# Altium integrated library WiLamp_St_NEMA.IntLib: 83 symbols
Pins are listed as number, name and electrical type; pins without a type are passive.

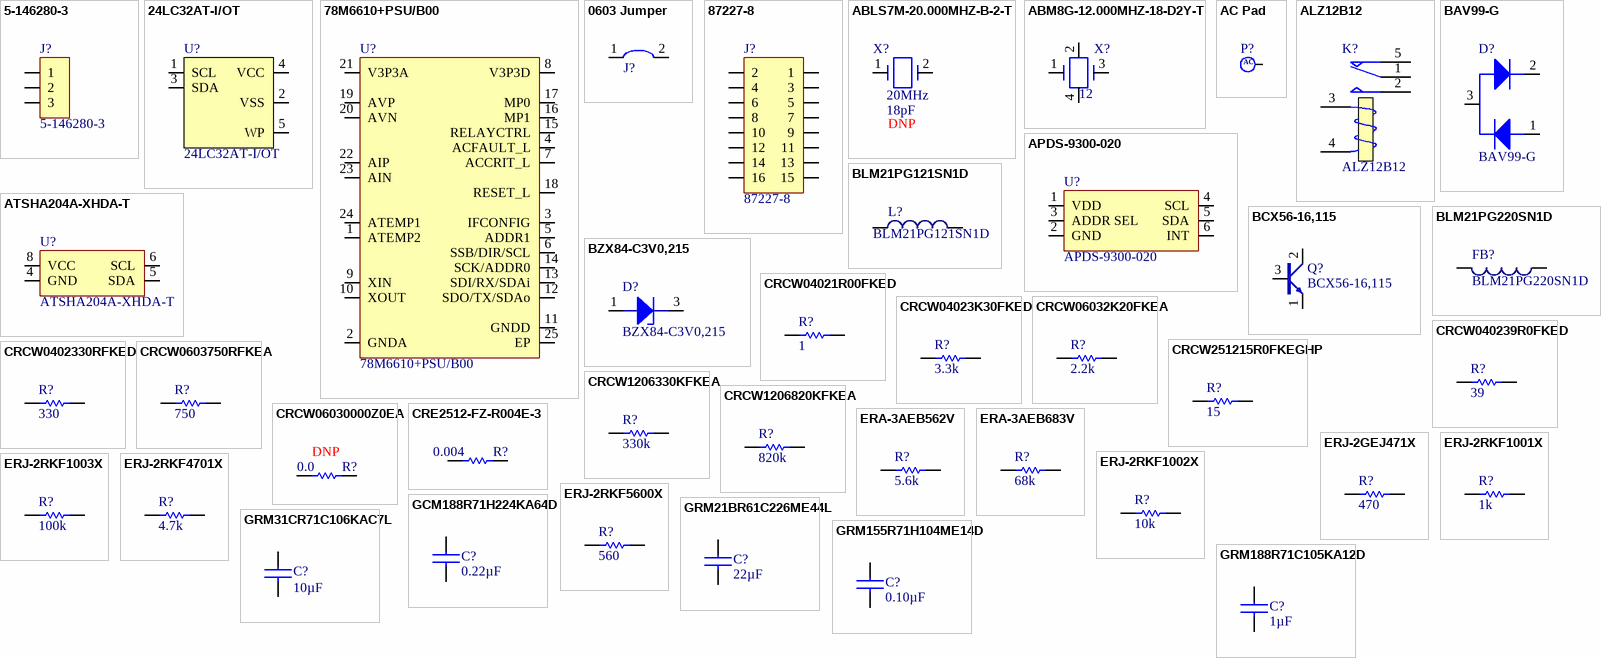
[diagram p0: symbols 5-146280-3 to GRM188R71C105KA12D]

## 5-146280-3
designator J?
CONN HEADR BRKWAY .100 3POS STR; MFT: TE Connectivity AMP Connectors; FUNCTION: Top; TYPE: TH; RATING: *; DNP: *; VALUE: 5-146280-3; MPN: 5-146280-3
footprint 5-146280-3
pins: 1, 2, 3

## 24LC32AT-I/OT
designator U?
IC EEPROM 32KBIT 400KHZ SOT23-5; MFT: Microchip Technology; VALUE: 24LC32AT-I/OT; TYPE: SMD; RATING: *; FUNCTION: *; DNP: *; MPN: 24LC32AT-I/OT
footprint SOT-23-5
pins: 1 SCL, 2 VSS, 3 SDA, 4 VCC, 5 WP

## 78M6610+PSU/B00
designator U?
IC ENERGY MEASURMENT 1PH 24TQFN; Manufacturer: Maxim Integrated; Input Impedance: 30 kOhm ~ 90 kOhm; Voltage - I/O High: 0.6V, 2V; Voltage - I/O Low: 0.5V, 0.8V; Current - Supply: 8.1mA; Voltage - Supply: 3 V ~ 3.6 V; Meter Type: Single Phase; FUNCTION: Energy Meter; Supplier 1: Digi-Key; RoHS: RoHS non-compliant; Category: Integrated Circuits (ICs); Stock 1: 62; Pricing 1: 1=2.56, 10=2.432, 25=2.3, 50=2.185, 100=2.15, 250=2.04248, 1000=1.93392 (USD); Packaging: Tube; Measurement Error: -; Operating Temperature: -40°C ~ 85°C; Mounting Type: Surface Mount; Package / Case: 24-WFQFN Exposed Pad; Supplier Device Package: 24-TQFN (4x4); ComponentLink1URL: http://datasheets.maximintegrated.com/en/ds/78M6610+PSU.pdf; ComponentLink1Description: http://datasheets.maximintegrated.com/en/ds/78M6610+PSU.pdf; Supplier Part Number 1: 78M6610+PSU/B00-ND; Manufacturer Part Number: 78M6610+PSU/B00
footprint QFN-24 (4X4mm)
pins: 1 ATEMP2, 2 GNDA, 3 IFCONFIG, 4 ACFAULT_L, 5 ADDR1, 6 SSB/DIR/SCL, 7 ACCRIT_L, 8 V3P3D, 9 XIN, 10 XOUT, 11 GNDD, 12 SDO/TX/SDAo, 13 SDI/RX/SDAi, 14 SCK/ADDR0, 15 RELAYCTRL, 16 MP1, 17 MP0, 18 RESET_L, 19 AVP, 20 AVN, 21 V3P3A, 22 AIP, 23 AIN, 24 ATEMP1, 25 EP

## 0603 Jumper
designator J?  (value not drawn)
FUNCTION: JN5168
footprint 0603 Jumper
pins: 1, 2

## 87227-8
designator J?
CONN HEADER VERT .100 16POS 15AU; MFT: TE Connectivity AMP Connectors; FUNCTION: Top; VALUE: 87227-8; TYPE: SMD; RATING: *; DNP: *; MPN: 87227-8
footprint 87227-8
pins: 1, 2, 3, 4, 5, 6, 7, 8, 9, 10, 11, 12, 13, 14, 15, 16

## ABLS7M-20.000MHZ-B-2-T
designator X?  Frequency: 20MHz  Load Capacitance: 18pF  (hidden comment: ABLS7M-20.000MHZ-B-2-T)
CRYSTAL 20.000 MHZ 18PF SMT; Manufacturer: Abracon LLC; Frequency Stability: ±50ppm; Frequency Tolerance: ±20ppm; ESR (Equivalent Series Resistance): 40 Ohm; Operating Mode: Fundamental; FUNCTION: Energy Meter; Supplier 1: Digi-Key; Manufacturer Part Number: ABLS7M-20.000MHZ-B-2-T; RoHS: RoHS Compliant; Category: Crystals and Oscillators; Stock 1: 0; Pricing 1: 3000=0.1725 (USD); Packaging: Tape & Reel (TR); Type: MHz Crystal; Operating Temperature: -20°C ~ 70°C; Ratings: -; Mounting Type: Surface Mount; Package / Case: 2-SMD; Size / Dimension: 0.450" L x 0.190" W (11.40mm x 4.70mm); Height: 0.165" (4.20mm); ComponentLink1URL: http://abracon.com/Resonators/ABLS7M.pdf; ComponentLink1Description: http://abracon.com/Resonators/ABLS7M.pdf; Supplier Part Number 1: ABLS7M-20.000MHZ-B-2-T-ND; DNP: DNP
footprint ABLS7M (crystal)
pins: 1, 2

## ABM8G-12.000MHZ-18-D2Y-T
designator X?  Frequency Nom: 12  (hidden comment: ABM8G-12.000MHZ-18-D2Y-T)
ABRACON - ABM8G-12.000MHZ-18-D2Y-T - CRYSTAL, 12MHz,18pF, 3.2mm x 2.5mm SMD, FULL REEL; Frequency Stability + / -: 30; Frequency Tolerance + / -: 20; Load Capacitance: 18; FUNCTION: DALI DMX controller; Supplier 1: Farnell; Manufacturer: ABRACON; Manufacturer Part Number: ABM8G-12.000MHZ-18-D2Y-T; RoHS: Y-EX; Stock 1: 3995; Pricing 1: 1000=0.86, 3000=0.832, 5000=0.802, 10000=0.774 (GBP); Product Range: ABRACON - ABM8; Crystal Case: 3.2mm x 2.5; ComponentLink1URL: http://www.abracon.com/Resonators/ABM8G.pdf; ComponentLink1Description: http://www.abracon.com/Resonators/ABM8G.pdf; Supplier Part Number 1: 2368793
footprint 4SMD-crystal
pins: 1, 2, 3, 4

## AC Pad
designator P?  (value not drawn)
FUNCTION: Top
footprint AC pad (Hole2.4mm_Pad4.2mm)
pins: 1
text: AC

## ALZ12B12
designator K?
General Purpose Relays 16A 12VDC SPDT CLASS B; MFT: Panasonic Industrial Devices; FUNCTION: Relay; VALUE: ALZ12B12; TYPE: Through Hole; MPN: ALZ12B12
footprint ALZ12B12
pins: 1 COM, 2 NO, 3 T1, 4 T2, 5 NC

## APDS-9300-020
designator U?
IC SENSOR AMBIENT LIGHT 6CHIPLED; MFT: Broadcom Limited; LOAD: *; TYPE: SMD; RATING: *; VALUE: APDS-9300-020; MPN: APDS-9300-020
footprint APDS-9300-020
pins: 1 VDD, 2 GND, 3 ADDR SEL, 4 SCL, 5 SDA, 6 INT

## ATSHA204A-XHDA-T
designator U?
IC CRYPTO 4.5KB I2C; MFT: Microchip Technology; LOAD: *; TYPE: SMD; RATING: *; VALUE: ATSHA204A-XHDA-T; MPN: ATSHA204A-XHDA-T
footprint TSSOP-8 (wide Body)
pins: 4 GND, 5 SDA, 6 SCL, 8 VCC

## BAV99-G
designator D?
DIODE ARRAY GP 70V 215MA SOT23; Manufacturer: Comchip Technology; Diode Configuration: 1 Pair Series Connection; Diode Type: Standard; Current - Average Rectified (Io) (per Diode): 215mA (DC); Voltage - Forward (Vf) (Max) @ If: 1.25V @ 150mA; Speed: Fast Recovery =< 500ns, > 200mA (Io); Reverse Recovery Time (trr): 6ns; Current - Reverse Leakage @ Vr: 2.5µA @ 70V; FUNCTION: DALI PHY; Supplier 1: Digi-Key; RoHS: RoHS Compliant; Category: Discrete Semiconductor Products; Stock 1: 9000; Pricing 1: 3000=0.046, 6000=0.04, 15000=0.034, 30000=0.032, 75000=0.03, 150000=0.026 (USD); Packaging: Tape & Reel (TR); Voltage - DC Reverse (Vr) (Max): 70V; Mounting Type: Surface Mount; Package / Case: TO-236-3, SC-59, SOT-23-3; Supplier Device Package: SOT-23-3; ComponentLink1URL: http://media.digikey.com/pdf/Data%20Sheets/Comchip%20PDFs/BAV99_BAW56.pdf; ComponentLink1Description: http://media.digikey.com/pdf/Data%20Sheets/Comchip%20PDFs/BAV99_BAW56.pdf; Supplier Part Number 1: 641-1322-2-ND; Manufacturer Part Number: BAV99-G
footprint SOT-23
pins: 1, 2, 3

## BCX56-16,115
designator Q?
TRANS NPN MED 1A 80V SOT89; Manufacturer: NXP Semiconductors; Vce Saturation (Max) @ Ib, Ic: 500mV @ 50mA, 500mA; DC Current Gain (hFE) (Min) @ Ic, Vce: 100 @ 150mA, 2V; Power - Max: 1.25W; Frequency - Transition: 180MHz; FUNCTION: DALI PHY; Supplier 1: Digi-Key; RoHS: RoHS Compliant; Category: Discrete Semiconductor Products; Stock 1: 23673; Pricing 1: 1=0.58, 10=0.406, 25=0.3332, 100=0.2664, 250=0.19404, 500=0.15758 (USD); Packaging: Cut Tape (CT); Transistor Type: NPN; Current - Collector (Ic) (Max): 1A; Voltage - Collector Emitter Breakdown (Max): 80V; Current - Collector Cutoff (Max): -; Mounting Type: Surface Mount; Package / Case: TO-243AA; Supplier Device Package: SOT-89-3; ComponentLink1URL: http://media.digikey.com/pdf/Data%20Sheets/NXP%20PDFs/BC639,BCP56,BCX56.pdf; ComponentLink1Description: http://media.digikey.com/pdf/Data%20Sheets/NXP%20PDFs/BC639,BCP56,BCX56.pdf; Supplier Part Number 1: 568-1642-1-ND; Manufacturer Part Number: BCX56-16,115
footprint SOT 89-3
pins: 1 emitter, 2 collector, 3 base

## BLM21PG121SN1D
designator L?
FERRITE CHIP 120 OHM 0805; MFT: Murata Electronics North America; RATING: 3A; TYPE: Surface Mount; VALUE: 120 Ohm; FUNCTION: JN5168; MPN: BLM21PG121SN1D
footprint 0805 INDUCTOR
pins: 1, 2

## BLM21PG220SN1D
designator FB?
FERRITE CHIP 22 OHM 0805; Manufacturer: Murata Electronics North America; Impedance @ Frequency: 22 Ohm @ 100MHz; Current Rating: 6A; DC Resistance (DCR): 9 mOhm Max; Filter Type: Differential Mode - Single; FUNCTION: DALI PHY; Supplier 1: Digi-Key; RoHS: RoHS Compliant; Category: Filters; Stock 1: 106220; Pricing 1: 1=0.13, 10=0.103, 50=0.0682, 100=0.0589, 250=0.04652, 500=0.0393, 1000=0.03309 (USD); Packaging: Cut Tape (CT); Package / Case: 0805 (2012 Metric); Mounting Type: Surface Mount; Height (Max): 0.041" (1.05mm); Size / Dimension: 0.079" L x 0.049" W (2.00mm x 1.25mm); ComponentLink1URL: http://search.murata.co.jp/Ceramy/image/img/PDF/ENG/L0110S0100BLM21P.pdf; ComponentLink1Description: http://search.murata.co.jp/Ceramy/image/img/PDF/ENG/L0110S0100BLM21P.pdf; Supplier Part Number 1: 490-5987-1-ND; Manufacturer Part Number: BLM21PG220SN1D
footprint 0805 (FERRITE)
pins: 1, 2

## BZX84-C3V0,215
designator D?
DIODE ZENER 3V 250MW TO236AB; Manufacturer: NXP Semiconductors; Tolerance: ±5%; Impedance (Max) (Zzt): 95 Ohm; Current - Reverse Leakage @ Vr: 10µA @ 1V; Voltage - Forward (Vf) (Max) @ If: 900mV @ 10mA; FUNCTION: DALI PHY; Supplier 1: Digi-Key; RoHS: RoHS Compliant; Category: Discrete Semiconductor Products; Stock 1: 18717; Pricing 1: 1=0.16, 10=0.149, 25=0.1352, 100=0.0973, 250=0.05732, 500=0.04756, 1000=0.03245 (USD); Packaging: Cut Tape (CT); Voltage - Zener (Nom) (Vz): 3V; Power - Max: 250mW; Operating Temperature: -65°C ~ 150°C; Mounting Type: Surface Mount; Package / Case: TO-236-3, SC-59, SOT-23-3; Supplier Device Package: SOT-23 (TO-236AB); ComponentLink1URL: http://www.nxp.com/documents/data_sheet/BZX84_SER.pdf; ComponentLink1Description: http://www.nxp.com/documents/data_sheet/BZX84_SER.pdf; Supplier Part Number 1: 568-6326-1-ND; Manufacturer Part Number: BZX84-C3V0,215
footprint SOT-23(TO-236AB)
pins: 1 A, 3 K

## CRCW04021R00FKED
designator R?  value 1  (hidden comment: CRCW04021R00FKED)
RES SMD 1 OHM 1% 1/16W 0402; MFT: Vishay Dale; FUNCTION: analog outputs; MPN: CRCW04021R00FKED; TYPE: SMD; RATING: 1/16W; DNP: *
footprint R0402
pins: 1, 2

## CRCW04023K30FKED
designator R?  value 3.3k  (hidden comment: CRCW04023K30FKED)
RES SMD 3.3K OHM 1% 1/16W 0402; MFT: Vishay Dale; FUNCTION: Energy Meter; MPN: CRCW04023K30FKED; TYPE: SMD; RATING: 1/16W; DNP: *
footprint R0402
pins: 1, 2

## CRCW06032K20FKEA
designator R?  Resistance (Ohms): 2.2k  (hidden comment: CRCW06032K20FKEA)
RES SMD 2.2K OHM 1% 1/10W 0603; Manufacturer: Vishay Dale; Power (Watts): 0.1W, 1/10W; Temperature Coefficient: ±100ppm/°C; FUNCTION: analog outputs; Supplier 1: Digi-Key; Manufacturer Part Number: CRCW06032K20FKEA; RoHS: RoHS Compliant; Category: Resistors; Stock 1: 257334; Pricing 1: 10=0.081, 50=0.0436, 200=0.0251, 1000=0.01711 (USD); Packaging: Digi-Reel®; Tolerance: ±1%; Composition: Thick Film; Features: Automotive AEC-Q200; Operating Temperature: -55°C ~ 155°C; Package / Case: 0603 (1608 Metric); Supplier Device Package: 0603 (1608 Metric); Size / Dimension: 0.061" L x 0.033" W (1.55mm x 0.85mm); Height: 0.020" (0.50mm); Number of Terminations: 2; ComponentLink1URL: http://www.vishay.com/docs/20035/dcrcwe3.pdf; ComponentLink1Description: http://www.vishay.com/docs/20035/dcrcwe3.pdf; Supplier Part Number 1: 541-2.20KHDKR-ND
footprint R0603
pins: 1, 2

## CRCW040239R0FKED
designator R?  value 39  (hidden comment: CRCW040239R0FKED)
RES SMD 39 OHM 1% 1/16W 0402; MFT: Vishay Dale; FUNCTION: DALI DMX controller; MPN: CRCW040239R0FKED; TYPE: SMD; RATING: 1/16W; DNP: *
footprint R0402
pins: 1, 2

## CRCW251215R0FKEGHP
designator R?  value 15  (hidden comment: CRCW251215R0FKEGHP)
RES SMD 15 OHM 1% 1.5W 2512; MFT: Vishay Dale; FUNCTION: DALI PHY; MPN: CRCW251215R0FKEGHP; TYPE: SMD; RATING: 1.5W; DNP: *
footprint R2512
pins: 1, 2

## CRCW0402330RFKED
designator R?  value 330  (hidden comment: CRCW0402330RFKED)
RES SMD 330 OHM 1% 1/16W 0402; MFT: Vishay Dale; FUNCTION: GPS; MPN: CRCW0402330RFKED; TYPE: SMD; RATING: 1/16W; DNP: *
footprint R0402
pins: 1, 2

## CRCW0603750RFKEA
designator R?  value 750  (hidden comment: CRCW0603750RFKEA)
RES SMD 750 OHM 1% 1/10W 0603; MFT: Vishay Dale; FUNCTION: Energy Meter; MPN: CRCW0603750RFKEA; TYPE: SMD; RATING: 1/10W; DNP: *
footprint R0603
pins: 1, 2

## CRCW1206330KFKEA
designator R?  value 330k  (hidden comment: CRCW1206330KFKEA)
RES SMD 330K OHM 1% 1/4W 1206; MFT: Vishay Dale; FUNCTION: Energy Meter; MPN: CRCW1206330KFKEA; TYPE: SMD; RATING: 1/4W; DNP: *
footprint R1206
pins: 1, 2

## CRCW1206820KFKEA
designator R?  value 820k  (hidden comment: CRCW1206820KFKEA)
RES SMD 820K OHM 1% 1/4W 1206; MFT: Vishay Dale; FUNCTION: Energy Meter; MPN: CRCW1206820KFKEA; TYPE: SMD; RATING: 1/4W; DNP: *
footprint R1206
pins: 1, 2

## CRCW06030000Z0EA
designator R?  value 0.0  (hidden comment: CRCW06030000Z0EA)
RES SMD 0.0OHM JUMPER 1/10W 0603; MFT: Vishay Dale; RATING: 0.1W, 1/10W; FUNCTION: Top; MPN: CRCW06030000Z0EA; DNP: DNP; TYPE: Surface Mount
footprint R0603
pins: 1, 2

## CRE2512-FZ-R004E-3
designator R?  Resistance (Ohms): 0.004  (hidden comment: CRE2512-FZ-R004E-3)
RES SMD 0.004 OHM 1% 3W 2512; Manufacturer: Bourns Inc.; Temperature Coefficient: ±75ppm/°C; FUNCTION: Energy Meter; Supplier 1: Digi-Key; Manufacturer Part Number: CRE2512-FZ-R004E-3; RoHS: RoHS Compliant; Category: Resistors; Stock 1: 0; Pricing 1: 1=0.62, 10=0.52, 25=0.4456, 50=0.401, 100=0.349, 250=0.31184, 500=0.25246, 1000=0.20419 (USD); Packaging: Cut Tape (CT); Tolerance: ±1%; Power (Watts): 3W; Composition: Metal Film; Features: Current Sense, Moisture Resistant; Operating Temperature: -55°C ~ 170°C; Package / Case: 2512 (6432 Metric); Supplier Device Package: 2512; Size / Dimension: 0.254" L x 0.132" W (6.45mm x 3.35mm); Height: 0.035" (0.90mm); Number of Terminations: 2; ComponentLink1URL: http://www.bourns.com/data/global/pdfs/CRE.pdf; ComponentLink1Description: http://www.bourns.com/data/global/pdfs/CRE.pdf; Supplier Part Number 1: CRE2512-FZ-R004E-3CT-ND
footprint R2512
pins: 1, 2

## ERA-3AEB562V
designator R?  value 5.6k  (hidden comment: ERA-3AEB562V)
RES SMD 5.6K OHM 0.1% 1/10W 0603; MFT: Panasonic Electronic Components; FUNCTION: analog inputs; MPN: ERA-3AEB562V; TYPE: SMD; RATING: 1/10W; DNP: *
footprint R0603
pins: 1, 2

## ERA-3AEB683V
designator R?  value 68k  (hidden comment: ERA-3AEB683V)
RES SMD 68K OHM 0.1% 1/10W 0603; MFT: Panasonic Electronic Components; FUNCTION: analog inputs; MPN: ERA-3AEB683V; TYPE: SMD; RATING: 1/10W; DNP: *
footprint R0603
pins: 1, 2

## ERJ-2GEJ471X
designator R?  value 470  (hidden comment: ERJ-2GEJ471X)
RES SMD 470 OHM 5% 1/10W 0402; MFT: Panasonic Electronic Components; MPN: ERJ-2GEJ471X; TYPE: SMD; RATING: 5% 1/10W; LOAD: *
footprint R0402
pins: 1, 2

## ERJ-2RKF1001X
designator R?  value 1k  (hidden comment: ERJ-2RKF1001X)
RES SMD 1K OHM 1% 1/10W 0402; MFT: Panasonic Electronic Components; RATING: 0.1W, 1/10W; MPN: ERJ-2RKF1001X; TYPE: Surface Mount
footprint R0402
pins: 1, 2

## ERJ-2RKF1002X
designator R?  value 10k  (hidden comment: ERJ-2RKF1002X)
RES SMD 10K OHM 1% 1/10W 0402; MFT: Panasonic Electronic Components; RATING: 0.1W, 1/10W; MPN: ERJ-2RKF1002X; TYPE: Surface Mount
footprint R0402
pins: 1, 2

## ERJ-2RKF1003X
designator R?  value 100k  (hidden comment: ERJ-2RKF1003X)
RES SMD 100K OHM 1% 1/10W 0402; MFT: Panasonic Electronic Components; RATING: 0.1W, 1/10W; MPN: ERJ-2RKF1003X; TYPE: Surface Mount
footprint R0402
pins: 1, 2

## ERJ-2RKF4701X
designator R?  value 4.7k  (hidden comment: ERJ-2RKF4701X)
RES SMD 4.7K OHM 1% 1/10W 0402; MFT: Panasonic Electronic Components; RATING: 0.1W, 1/10W; MPN: ERJ-2RKF4701X; TYPE: Surface Mount
footprint R0402
pins: 1, 2

## ERJ-2RKF5600X
designator R?  Resistance (Ohms): 560  (hidden comment: ERJ-2RKF5600X)
RES SMD 560 OHM 1% 1/10W 0402; Manufacturer: Panasonic Electronic Components; Power (Watts): 0.1W, 1/10W; Temperature Coefficient: ±100ppm/°C; FUNCTION: DALI PHY; Supplier 1: Digi-Key; Manufacturer Part Number: ERJ-2RKF5600X; RoHS: RoHS Compliant; Category: Resistors; Stock 1: 147299; Pricing 1: 1=0.1, 50=0.015, 100=0.011, 250=0.0084, 500=0.00674, 1000=0.00496, 5000=0.00355 (USD); Packaging: Cut Tape (CT); Tolerance: ±1%; Composition: Thick Film; Features: Automotive AEC-Q200; Operating Temperature: -55°C ~ 155°C; Package / Case: 0402 (1005 Metric); Supplier Device Package: 0402; Size / Dimension: 0.039" L x 0.020" W (1.00mm x 0.50mm); Height: 0.016" (0.40mm); Number of Terminations: 2; ComponentLink1URL: http://industrial.panasonic.com/www-cgi/jvcr13pz.cgi?E+PZ+3+AOA0002+ERJ2RKF5600X+7+WW; ComponentLink1Description: http://industrial.panasonic.com/www-cgi/jvcr13pz.cgi?E+PZ+3+AOA0002+ERJ2RKF5600X+7+WW; Supplier Part Number 1: P560LCT-ND
footprint R0402
pins: 1, 2

## GCM188R71H224KA64D
designator C?  value 0.22µF  (hidden comment: GCM188R71H224KA64D)
CAP CER 0.22UF 50V X7R 0603; MFT: Murata Electronics North America; TYPE: Surface Mount, MLCC; FUNCTION: analog inputs; MPN: GCM188R71H224KA64D; RATING: 50V
footprint C0603
pins: 1, 2

## GRM21BR61C226ME44L
designator C?  value 22µF  (hidden comment: GRM21BR61C226ME44L)
CAP CER 22UF 16V X5R 0805; MFT: Murata Electronics North America; TYPE: SMD; FUNCTION: Power Supply; MPN: GRM21BR61C226ME44L; RATING: 16V; DNP: *
footprint C0805
pins: 1, 2

## GRM31CR71C106KAC7L
designator C?  value 10µF  (hidden comment: GRM31CR71C106KAC7L)
CAP CER 10UF 16V X7R 1206; MFT: Murata Electronics North America; TYPE: SMD; FUNCTION: GPS; MPN: GRM31CR71C106KAC7L; RATING: 16V; DNP: *
footprint C1206
pins: 1, 2

## GRM155R71H104ME14D
designator C?  value 0.10µF  (hidden comment: GRM155R71H104ME14D)
CAP CER 0.1UF 50V X7R 0402; MFT: Murata Electronics North America; TYPE: SMD; FUNCTION: Top; MPN: GRM155R71H104ME14D; RATING: 50V; DNP: *
footprint C0402
pins: 1, 2

## GRM188R71C105KA12D
designator C?  value 1µF  (hidden comment: GRM188R71C105KA12D)
CAP CER 1UF 16V X7R 0603; MFT: Murata Electronics North America; RATING: ±10%, 16V; TYPE: Surface Mount, MLCC; FUNCTION: Energy Meter; MPN: GRM188R71C105KA12D
footprint C0603
pins: 1, 2

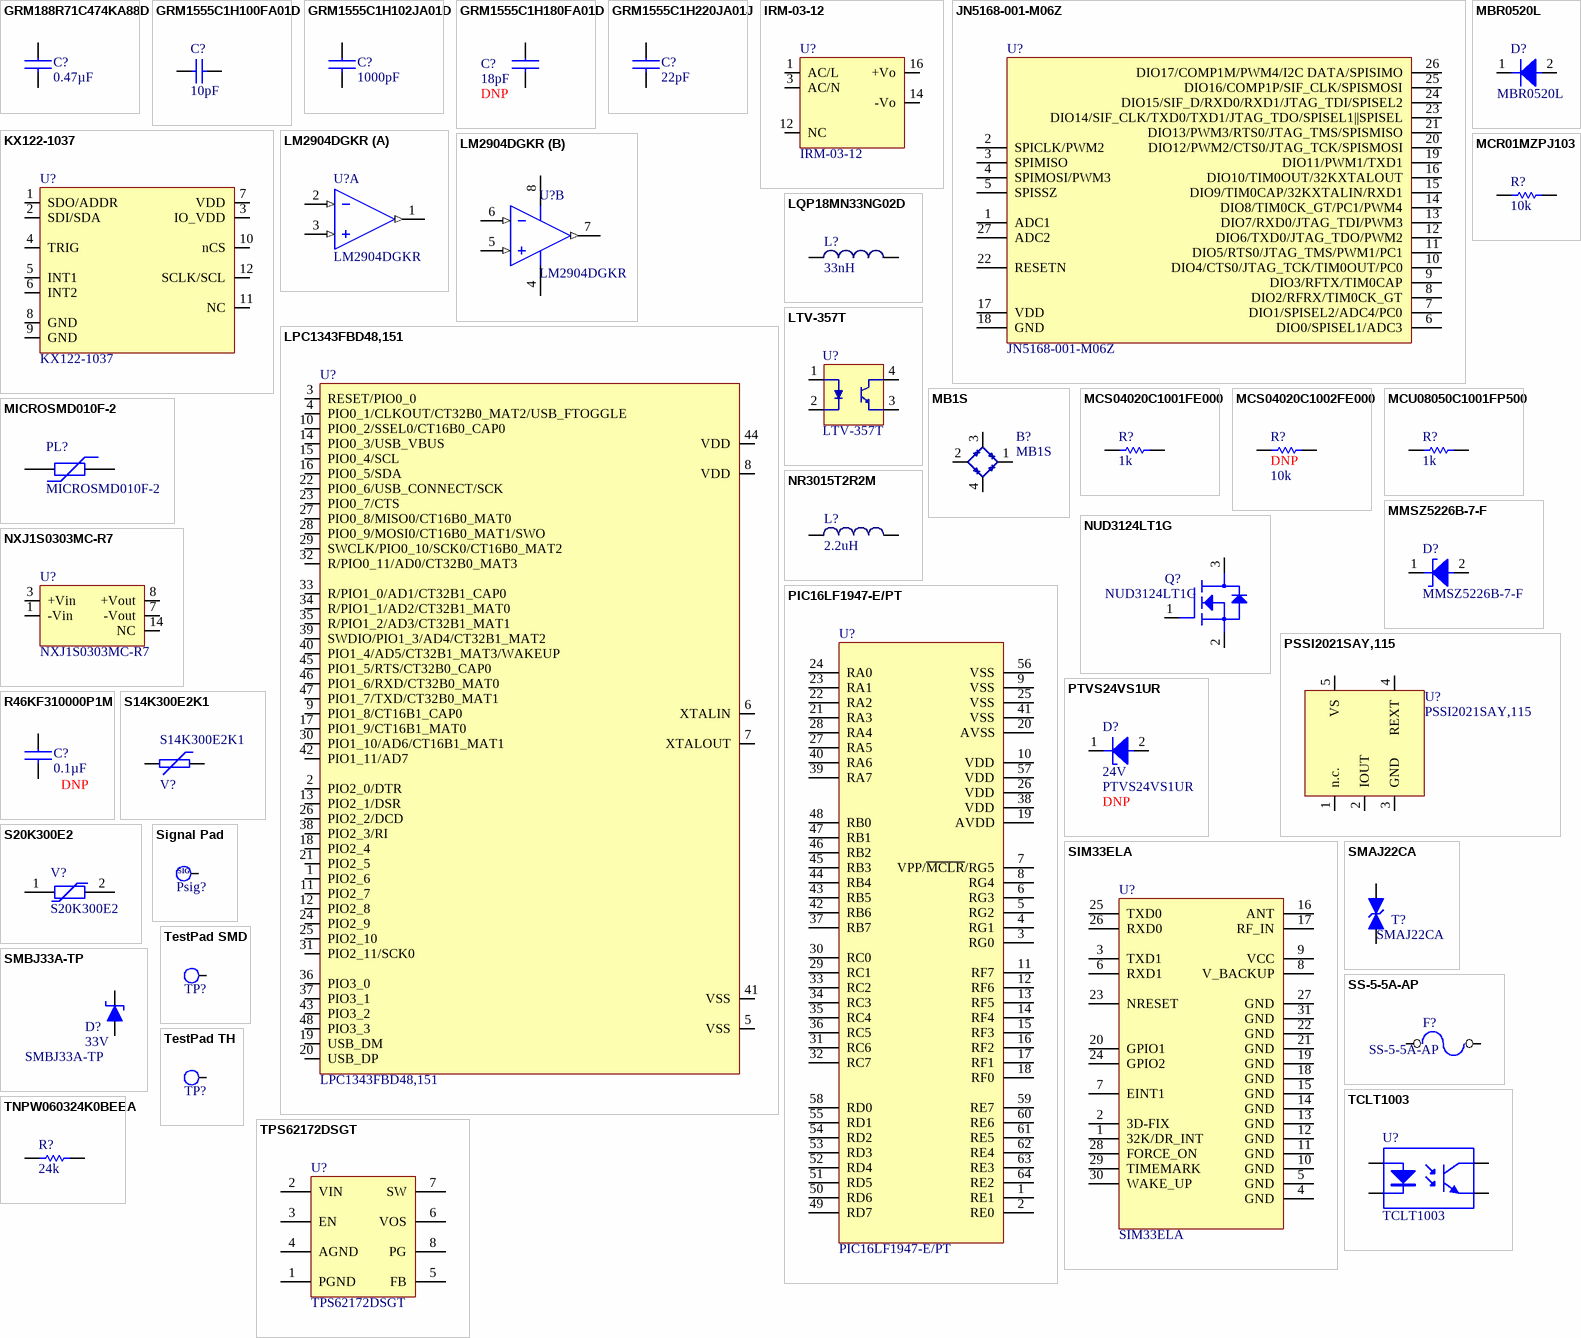
[diagram p1: symbols GRM188R71C474KA88D to TPS62172DSGT]

## GRM188R71C474KA88D
designator C?  value 0.47µF  (hidden comment: GRM188R71C474KA88D)
CAP CER 0.47UF 16V X7R 0603; MFT: Murata Electronics North America; TYPE: SMD; FUNCTION: analog outputs; MPN: GRM188R71C474KA88D; RATING: 16V; DNP: *
footprint C0603
pins: 1, 2

## GRM1555C1H100FA01D
designator C?  value 10pF  (hidden comment: GRM1555C1H100FA01D)
CAP CER 10PF 50V 1% NP0 0402; MFT: Murata Electronics North America; TYPE: Surface Mount, MLCC; FUNCTION: DALI DMX controller; MPN: GRM1555C1H100FA01D; RATING: 50V
footprint C0402
pins: 1, 2

## GRM1555C1H102JA01D
designator C?  value 1000pF  (hidden comment: GRM1555C1H102JA01D)
CAP CER 1000PF 50V NP0 0402; MFT: Murata Electronics North America; TYPE: SMD; FUNCTION: Energy Meter; MPN: GRM1555C1H102JA01D; RATING: 50V; DNP: *
footprint C0402
pins: 1, 2

## GRM1555C1H180FA01D
designator C?  value 18pF  (hidden comment: GRM1555C1H180FA01D)
CAP CER 18PF 50V NP0 0402; MFT: Murata Electronics North America; TYPE: SMD; FUNCTION: Energy Meter; MPN: GRM1555C1H180FA01D; RATING: 50V; DNP: DNP
footprint C0402
pins: 1, 2

## GRM1555C1H220JA01J
designator C?  value 22pF  (hidden comment: GRM1555C1H220JA01J)
CAP CER 22PF 50V NP0 0402; MFT: Murata Electronics North America; TYPE: SMD; FUNCTION: GPS; MPN: GRM1555C1H220JA01J; RATING: 50V; DNP: *
footprint C0402
pins: 1, 2

## IRM-03-12
designator U?
AC/DC Power Modules 85-305Vac 12Vout 250mA 3W PCM mnt; MFT: Mean Well; FUNCTION: Power Supply; VALUE: IRM-03-12; MPN: IRM-03-12
footprint IRM-03-12
pins: 1 AC/L, 3 AC/N, 12 NC, 14 -Vo, 16 +Vo

## JN5168-001-M06Z
designator U?
RF TXRX MODULE 802.15.4 U.FL ANT; MFT: NXP USA Inc.; FUNCTION: JN5168; VALUE: JN5168-001-M06Z; TYPE: SMD; RATING: *; DNP: *; MPN: JN5168-001-M06Z
footprint JN5168-001-M06Z
pins: 1 ADC1, 2 SPICLK/PWM2, 3 SPIMISO, 4 SPIMOSI/PWM3, 5 SPISSZ, 6 DIO0/SPISEL1/ADC3, 7 DIO1/SPISEL2/ADC4/PC0, 8 DIO2/RFRX/TIM0CK_GT, 9 DIO3/RFTX/TIM0CAP, 10 DIO4/CTS0/JTAG_TCK/TIM0OUT/PC0, 11 DIO5/RTS0/JTAG_TMS/PWM1/PC1, 12 DIO6/TXD0/JTAG_TDO/PWM2, 13 DIO7/RXD0/JTAG_TDI/PWM3, 14 DIO8/TIM0CK_GT/PC1/PWM4, 15 DIO9/TIM0CAP/32KXTALIN/RXD1, 16 DIO10/TIM0OUT/32KXTALOUT, 17 VDD, 18 GND, 19 DIO11/PWM1/TXD1, 20 DIO12/PWM2/CTS0/JTAG_TCK/SPISMOSI, 21 DIO13/PWM3/RTS0/JTAG_TMS/SPISMISO, 22 RESETN, 23 DIO14/SIF_CLK/TXD0/TXD1/JTAG_TDO/SPISEL1||SPISEL, 24 DIO15/SIF_D/RXD0/RXD1/JTAG_TDI/SPISEL2, 25 DIO16/COMP1P/SIF_CLK/SPISMOSI, 26 DIO17/COMP1M/PWM4/I2C DATA/SPISIMO, 27 ADC2

## KX122-1037
designator U?
ACCELEROMETER 2-8G I2C/SPI 12LGA; MFT: Kionix Inc.; LOAD: *; RATING: *; TYPE: SMD; VALUE: KX122-1037; MPN: KX122-1037
footprint KX122-1037
pins: 1 SDO/ADDR, 2 SDI/SDA, 3 IO_VDD, 4 TRIG, 5 INT1, 6 INT2, 7 VDD, 8 GND, 9 GND, 10 nCS, 11 NC, 12 SCLK/SCL

## LM2904DGKR
designator U?
IC OPAMP GP 1.1MHZ 8SO; MFT: Rohm Semiconductor; FUNCTION: analog outputs; TYPE: Surface Mount; VALUE: LM2904DGKR; MPN: LM2904DGKR
footprint MSOP-8 (Shrink Small Outline, MSOP; 8 Leads; Body Width 3 mm; Pitch 0.65 mm)
part A pins: 1 (out), 2 (in), 3 (in)
part B pins: 4, 5 (in), 6 (in), 7 (out), 8

## LPC1343FBD48,151
designator U?
IC MCU ARM 32KB FLASH 48LQFP; Manufacturer: NXP Semiconductors; Core Processor: ARM® Cortex®-M3; Core Size: 32-Bit; Speed: 72MHz; Connectivity: I²C, Microwire, SPI, SSI, SSP, UART/USART, USB; Peripherals: Brown-out Detect/Reset, POR, WDT; Number of I/O: 40; Program Memory Size: 32KB (32K x 8); RAM Size: 8K x 8; Voltage - Supply (Vcc/Vdd): 2 V ~ 3.6 V; Data Converters: A/D 8x10b; Oscillator Type: Internal; FUNCTION: DALI DMX controller; Supplier 1: Digi-Key; RoHS: RoHS Compliant; Category: Integrated Circuits (ICs); Stock 1: 14; Pricing 1: 1=4.51, 10=4.025, 25=3.6224, 100=3.3005, 250=2.97852, 500=2.6726, 1000=2.254, 2500=2.1413, 5000=2.0608 (USD); Packaging: Tray; Program Memory Type: FLASH; EEPROM Size: -; Operating Temperature: -40°C ~ 85°C; Package / Case: 48-LQFP; Supplier Device Package: 48-LQFP (7x7); ComponentLink1URL: http://www.nxp.com/documents/data_sheet/LPC1311_13_42_43.pdf; ComponentLink1Description: http://www.nxp.com/documents/data_sheet/LPC1311_13_42_43.pdf; Supplier Part Number 1: 568-4945-ND; Manufacturer Part Number: LPC1343FBD48,151
footprint LQFP-48(7x7mm body)
pins: 1 PIO2_6, 2 PIO2_0/DTR, 3 RESET/PIO0_0, 4 PIO0_1/CLKOUT/CT32B0_MAT2/USB_FTOGGLE, 5 VSS, 6 XTALIN, 7 XTALOUT, 8 VDD, 9 PIO1_8/CT16B1_CAP0, 10 PIO0_2/SSEL0/CT16B0_CAP0, 11 PIO2_7, 12 PIO2_8, 13 PIO2_1/DSR, 14 PIO0_3/USB_VBUS, 15 PIO0_4/SCL, 16 PIO0_5/SDA, 17 PIO1_9/CT16B1_MAT0, 18 PIO2_4, 19 USB_DM, 20 USB_DP, 21 PIO2_5, 22 PIO0_6/USB_CONNECT/SCK, 23 PIO0_7/CTS, 24 PIO2_9, 25 PIO2_10, 26 PIO2_2/DCD, 27 PIO0_8/MISO0/CT16B0_MAT0, 28 PIO0_9/MOSI0/CT16B0_MAT1/SWO, 29 SWCLK/PIO0_10/SCK0/CT16B0_MAT2, 30 PIO1_10/AD6/CT16B1_MAT1, 31 PIO2_11/SCK0, 32 R/PIO0_11/AD0/CT32B0_MAT3, 33 R/PIO1_0/AD1/CT32B1_CAP0, 34 R/PIO1_1/AD2/CT32B1_MAT0, 35 R/PIO1_2/AD3/CT32B1_MAT1, 36 PIO3_0, 37 PIO3_1, 38 PIO2_3/RI, 39 SWDIO/PIO1_3/AD4/CT32B1_MAT2, 40 PIO1_4/AD5/CT32B1_MAT3/WAKEUP, 41 VSS, 42 PIO1_11/AD7, 43 PIO3_2, 44 VDD, 45 PIO1_5/RTS/CT32B0_CAP0, 46 PIO1_6/RXD/CT32B0_MAT0, 47 PIO1_7/TXD/CT32B0_MAT1, 48 PIO3_3

## LQP18MN33NG02D
designator L?  value 33nH  (hidden comment: LQP18MN33NG02D)
FIXED IND 33NH 100MA 2.8 OHM SMD; MFT: Murata Electronics North America; FUNCTION: GPS; MPN: LQP18MN33NG02D; TYPE: SMD; RATING: 100MA 2.8 OHM; DNP: *
footprint 0603 INDUCTOR
pins: 1, 2

## LTV-357T
designator U?
OPTOISOLATOR 3.75KV TRANS 4-SOP; MFT: Lite-On Inc.; TYPE: SMD; RATING: 3.75KV; VALUE: LTV-357T; LOAD: *; MPN: LTV-357T
footprint 4SMD(gull wing)
pins: 1 Anode, 2 Cathode, 3 Emitter, 4 Collector

## MB1S
designator B?
IC BRIDGE RECT 0.5A 100V 4-SOIC; Manufacturer: Fairchild Semiconductor; Diode Type: Single Phase; Current - DC Forward (If) (Max): 500mA; FUNCTION: DALI PHY; Supplier 1: Digi-Key; RoHS: RoHS Compliant; Category: Discrete Semiconductor Products; Stock 1: 43975; Pricing 1: 1=0.45, 10=0.356, 25=0.3004, 100=0.2448, 250=0.20272, 500=0.16746, 1000=0.12543 (USD); Packaging: Cut Tape (CT); Voltage - Peak Reverse (Max): 100V; Mounting Type: Surface Mount; Package / Case: TO-269AA, 4-BESOP; Supplier Device Package: 4-SOIC; ComponentLink1URL: http://www.fairchildsemi.com/datasheets/MB/MB1S.pdf; ComponentLink1Description: http://www.fairchildsemi.com/datasheets/MB/MB1S.pdf; Supplier Part Number 1: MB1SCT-ND; Manufacturer Part Number: MB1S; DNP: *
footprint SOIC-4
pins: 1, 2, 3, 4

## MBR0520L
designator D?
DIODE SCHOTTKY 20V 0.5A SOD123; Manufacturer: Fairchild Semiconductor; Current - Average Rectified (Io): 500mA; Voltage - Forward (Vf) (Max) @ If: 385mV @ 500mA; Speed: Fast Recovery =< 500ns, > 200mA (Io); Current - Reverse Leakage @ Vr: 250µA @ 20V; FUNCTION: DALI PHY; Supplier 1: Digi-Key; RoHS: RoHS Compliant; Category: Discrete Semiconductor Products; Stock 1: 251227; Pricing 1: 1=0.26, 10=0.232, 25=0.1668, 100=0.1297, 250=0.08152, 500=0.06946, 1000=0.04732 (GBP); Packaging: Cut Tape (CT); Diode Type: Schottky; Voltage - DC Reverse (Vr) (Max): 20V; Reverse Recovery Time (trr): -; Capacitance @ Vr, F: -; Mounting Type: Surface Mount; Package / Case: SOD-123; Supplier Device Package: SOD-123; Operating Temperature - Junction: -65°C ~ 125°C; ComponentLink1URL: http://www.fairchildsemi.com/datasheets/MB/MBR0520L.pdf; ComponentLink1Description: http://www.fairchildsemi.com/datasheets/MB/MBR0520L.pdf; Supplier Part Number 1: MBR0520LCT-ND; Manufacturer Part Number: MBR0520L
footprint SOD123
pins: 1 cathode, 2 anode

## MCR01MZPJ103
designator R?  value 10k  (hidden comment: MCR01MZPJ103)
RES SMD 10K OHM 5% 1/16W 0402; MFT: Rohm Semiconductor; MPN: MCR01MZPJ103; TYPE: SMD; RATING: 5% 1/16W; FUNCTION: *; DNP: *
footprint R0402
pins: 1, 2

## MCS04020C1001FE000
designator R?  value 1k  (hidden comment: MCS04020C1001FE000)
RES SMD 1K OHM 1% 1/10W 0402; MFT: Vishay Beyschlag; FUNCTION: Top; MPN: MCS04020C1001FE000; TYPE: SMD; RATING: 1/10W; DNP: *
footprint R0402
pins: 1, 2

## MCS04020C1002FE000
designator R?  value 10k  (hidden comment: MCS04020C1002FE000)
RES SMD 10K OHM 1% 1/10W 0402; MFT: Vishay Beyschlag; FUNCTION: DALI DMX controller; MPN: MCS04020C1002FE000; TYPE: SMD; RATING: 1/10W; DNP: DNP
footprint R0402
pins: 1, 2

## MCU08050C1001FP500
designator R?  value 1k  (hidden comment: MCU08050C1001FP500)
RES SMD 1K OHM 1% 1/5W 0805; MFT: Vishay Beyschlag; FUNCTION: DALI PHY; MPN: MCU08050C1001FP500; TYPE: SMD; RATING: 1/5W; DNP: *
footprint R0805
pins: 1, 2

## MICROSMD010F-2
designator PL?
POLYSWITCH 0.10A RESET FUSE SMD; MFT: TE Connectivity Raychem Circuit Protection; FUNCTION: Top; VALUE: MICROSMD010F-2; TYPE: Surface Mount; MPN: MICROSMD010F-2
footprint MICROSMD010F-2
pins: 1, 2

## MMSZ5226B-7-F
designator D?
DIODE ZENER 3.3V 500MW SOD123; Manufacturer: Diodes Incorporated; Tolerance: ±5%; Impedance (Max) (Zzt): 28 Ohm; Current - Reverse Leakage @ Vr: 25µA @ 1V; Voltage - Forward (Vf) (Max) @ If: 900mV @ 10mA; FUNCTION: Energy Meter; Supplier 1: Digi-Key; RoHS: RoHS Compliant; Category: Discrete Semiconductor Products; Stock 1: 26587; Pricing 1: 1=0.21, 10=0.193, 25=0.1392, 100=0.1082, 250=0.06796, 500=0.0579, 1000=0.03945 (USD); Packaging: Digi-Reel®; Voltage - Zener (Nom) (Vz): 3.3V; Power - Max: 500mW; Operating Temperature: -65°C ~ 150°C; Mounting Type: Surface Mount; Package / Case: SOD-123; Supplier Device Package: SOD-123; ComponentLink1URL: http://www.diodes.com/datasheets/ds18010.pdf; ComponentLink1Description: http://www.diodes.com/datasheets/ds18010.pdf; Supplier Part Number 1: MMSZ5226B-FDIDKR-ND; Manufacturer Part Number: MMSZ5226B-7-F
footprint SOD123
pins: 1 cathode, 2 anode

## NR3015T2R2M
designator L?  value 2.2uH  (hidden comment: NR3015T2R2M)
FIXED IND 2.2UH 1.5A 72 MOHM SMD; MFT: Taiyo Yuden; TYPE: Surface Mount; FUNCTION: Power Supply; MPN: NR3015T2R2M
footprint NR3015 (SMD Power Inductors)
pins: 1, 2

## NUD3124LT1G
designator Q?
IC INDCT LOAD DRVR AUTO SOT23; MFT: ON Semiconductor; TYPE: Surface Mount; FUNCTION: pwm outputs; VALUE: NUD3124LT1G; MPN: NUD3124LT1G
footprint SOT-23-3
pins: 1 gate, 2 source, 3 drain

## NXJ1S0303MC-R7
designator U?
Isolated DC/DC Converters 1W 3.3Vin 3.3Vout 333mA SM; MFT: Murata Power Solutions; FUNCTION: Energy Meter; TYPE: SMD/SMT; VALUE: NXJ1S0303MC-R7; MPN: NXJ1S0303MC-R7
footprint NXJ1S0303MC-R7
pins: 1 -Vin, 3 +Vin, 7 -Vout, 8 +Vout, 14 NC

## PIC16LF1947-E/PT
designator U?
IC MCU 8BIT 28KB FLASH 64TQFP; MFT: Microchip Technology; FUNCTION: GPS; VALUE: PIC16LF1947-E/PT; TYPE: SMD/SMT; MPN: PIC16LF1947-E/PT
footprint TQFP-64
pins: 1 RE1, 2 RE0, 3 RG0, 4 RG1, 5 RG2, 6 RG3, 7 VPP/~{MCLR}/RG5, 8 RG4, 9 VSS, 10 VDD, 11 RF7, 12 RF6, 13 RF5, 14 RF4, 15 RF3, 16 RF2, 17 RF1, 18 RF0, 19 AVDD, 20 AVSS, 21 RA3, 22 RA2, 23 RA1, 24 RA0, 25 VSS, 26 VDD, 27 RA5, 28 RA4, 29 RC1, 30 RC0, 31 RC6, 32 RC7, 33 RC2, 34 RC3, 35 RC4, 36 RC5, 37 RB7, 38 VDD, 39 RA7, 40 RA6, 41 VSS, 42 RB6, 43 RB5, 44 RB4, 45 RB3, 46 RB2, 47 RB1, 48 RB0, 49 RD7, 50 RD6, 51 RD5, 52 RD4, 53 RD3, 54 RD2, 55 RD1, 56 VSS, 57 VDD, 58 RD0, 59 RE7, 60 RE6, 61 RE5, 62 RE4, 63 RE3, 64 RE2

## PSSI2021SAY,115
designator U?
NXP - PSSI2021SAY,115 - IC, CURRENT REGULATOR, 75V, 50MA, 5-SOT-353, FULL REEL; Power Dissipation Pd: 335; No. of Pins: 5; FUNCTION: DALI PHY; Supplier 1: Newark; Manufacturer: NXP; RoHS: YES; Stock 1: 3000; Pricing 1: 3000=0.233, 6000=0.216, 15000=0.209, 30000=0.201, 75000=0.197, 150000=0.192 (USD); Forward Current If: -; Forward Voltage: -; Forward Current If(AV): -; Current Regulator Case Style: SOT-353; Packaging: Tape & Reel; ComponentLink1URL: http://www.farnell.com/datasheets/667515.pdf; ComponentLink1Description: http://www.farnell.com/datasheets/667515.pdf; Supplier Part Number 1: 70R7980; Manufacturer Part Number: PSSI2021SAY,115
footprint SOT353
pins: 1 n.c., 2 IOUT, 3 GND, 4 REXT, 5 VS

## PTVS24VS1UR
designator D?  Reverse Stand-Off Voltage Vrwm: 24V  (hidden comment: PTVS24VS1UR)
NXP - PTVS24VS1UR - DIODE, TVS, UNI, 24V, 400W, SOD123W; TVS Polarity: Unidirectional; Breakdown Voltage Min: 26.7; Breakdown Voltage Max: 29.5; Clamping Voltage Vc Max: 38.9; Peak Pulse Current Ippm: 10.3; Diode Case Style: SOD-123; No. of Pins: 2; Power Dissipation Pd: 400; SVHC: No SVHC (16-Jun-2014); Breakdown Voltage Range: 26.7V to 29.5; FUNCTION: DALI PHY; Supplier 1: Farnell; Manufacturer: NXP; RoHS: YES; Stock 1: 5773; Pricing 1: 1=0.416, 25=0.29, 100=0.217, 250=0.168, 500=0.139, 2000=0.0785, 2000=0.0507, 20000=0.0482 (GBP); Packaging: Cut Tape; MSL: MSL 1 - Unlimited<!--FANDB--><div class="features-and-benefits-container"></div>; ComponentLink1URL: http://www.farnell.com/datasheets/1670937.pdf; ComponentLink1Description: http://www.farnell.com/datasheets/1670937.pdf; Supplier Part Number 1: 1829247; Manufacturer Part Number: PTVS24VS1UR; DNP: DNP
footprint SOD123
pins: 1 cathode, 2 anode

## R46KF310000P1M
designator C?  value 0.1µF  (hidden comment: R46KF310000P1M)
CAP FILM 0.1UF 20% 560VDC RADIAL; MFT: Kemet; TYPE: Through Hole; FUNCTION: Top; MPN: R46KF310000P1M; RATING: 560VDC; DNP: DNP
footprint R46KF310000P1M
pins: 1, 2

## S14K300E2K1
designator V?
VARISTOR 470V 6KA DISC 14MM; MFT: EPCOS (TDK); FUNCTION: Relay; VALUE: S14K300E2K1; TYPE: TH; RATING: 470V; DNP: *; MPN: S14K300E2K1
footprint S14K300E2K1
pins: 1, 2

## S20K300E2
designator V?
VARISTOR 470V 10KA DISC 20MM; MFT: EPCOS (TDK); FUNCTION: Top; VALUE: S20K300E2; TYPE: SMD; RATING: 470V 10KA; DNP: *; MPN: S20K300E2
footprint S20K300E2
pins: 1, 2

## Signal Pad
designator Psig?  (value not drawn)
FUNCTION: Top
footprint SIG_PAD (Hole1.3mm_Pad2.2mm)
pins: 1
text: SIG

## SIM33ELA
designator U?
A-GPS receiver, with built-in Antenna; MFT: SIMCom; FUNCTION: GPS; VALUE: SIM33ELA; MPN: SIM33ELA
footprint SIM33ELA
pins: 1 32K/DR_INT, 2 3D-FIX, 3 TXD1, 4 GND, 5 GND, 6 RXD1, 7 EINT1, 8 V_BACKUP, 9 VCC, 10 GND, 11 GND, 12 GND, 13 GND, 14 GND, 15 GND, 16 ANT, 17 RF_IN, 18 GND, 19 GND, 20 GPIO1, 21 GND, 22 GND, 23 NRESET, 24 GPIO2, 25 TXD0, 26 RXD0, 27 GND, 28 FORCE_ON, 29 TIMEMARK, 30 WAKE_UP, 31 GND

## SMAJ22CA
designator T?
TVS Diodes - Transient Voltage Suppressors 22Vr 400W 11.3A 5% BiDirectional; MFT: Littelfuse; TYPE: SMD/SMT; RATING: 22 V; FUNCTION: analog outputs; VALUE: SMAJ22CA; MPN: SMAJ22CA
footprint DO-214AC
pins: 1 A, 2 K

## SMBJ33A-TP
designator D?  RATING: 33V  (hidden comment: SMBJ33A-TP)
TVS DIODE 33VWM 53.3VC SMB; MFT: Micro Commercial Co; FUNCTION: analog inputs; TYPE: Surface Mount; VALUE: SMBJ33A-TP; MPN: SMBJ33A-TP
footprint DO-214AA, SMB
pins: 1 K, 2 A

## SS-5-5A-AP
designator F?
Fuses with Leads (Through Hole) SS-5 RADIAL TD FUSE AMMO PACK; MFT: Eaton Bussmann; FUNCTION: Top; TYPE: Through-Hole; VALUE: 5A; MPN: SS-5-5A-AP
footprint SS-5-5A-AP
pins: 1, 2

## TCLT1003
designator U?
OPTOISOLATR 5KV TRANSISTOR 4-SOP; MFT: Vishay Semiconductor Opto Division; FUNCTION: Energy Meter; VALUE: TCLT1003; TYPE: SMD; RATING: 5KV; DNP: *; MPN: TCLT1003
footprint SOP-4L
pins: 1 A, 2 K, 3 A/K, 4 A/K

## TestPad SMD
designator TP?  (value not drawn)
FUNCTION: Top
footprint TestPad SMD
pins: 1

## TestPad TH
designator TP?  (value not drawn)
FUNCTION: Top
footprint TestPad TH
pins: 1

## TNPW060324K0BEEA
designator R?  value 24k  (hidden comment: TNPW060324K0BEEA)
RES SMD 24K OHM 0.1% 1/10W 0603; MFT: Vishay Dale; FUNCTION: analog inputs; MPN: TNPW060324K0BEEA; TYPE: SMD; RATING: 1/10W; DNP: *
footprint R0603
pins: 1, 2

## TPS62172DSGT
designator U?
TEXAS INSTRUMENTS - TPS62172DSGT - DC-DC CONVERTER, BUCK, 2.25MHZ, WSON-8; FUNCTION: Power Supply; MFT: TEXAS INSTRUMENTS; VALUE: TPS62172DSGT; TYPE: SMD; RATING: *; DNP: *; MPN: TPS62172DSGT
footprint WSON8
pins: 1 PGND, 2 VIN, 3 EN, 4 AGND, 5 FB, 6 VOS, 7 SW, 8 PG

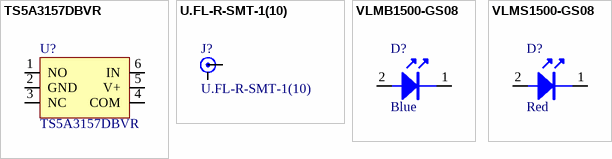
[diagram p2: symbols TS5A3157DBVR to VLMS1500-GS08]

## TS5A3157DBVR
designator U?
IC SWITCH SPDT SOT23-6; Manufacturer: Texas Instruments; Circuit: 1 x SPDT; On-State Resistance: 10 Ohm; Voltage Supply Source: Single Supply; Voltage - Supply, Single/Dual (±): 1.65 V ~ 5.5 V; Current - Supply: 2.5µA; FUNCTION: Top; Supplier 1: Digi-Key; RoHS: RoHS Compliant; Category: Integrated Circuits (ICs); Stock 1: 10508; Pricing 1: 1=0.44, 10=0.371, 25=0.3248, 100=0.2781, 250=0.2412, 500=0.2043, 750=0.1764, 1000=0.1575 (USD); Packaging: Cut Tape (CT); Operating Temperature: -40°C ~ 85°C; Mounting Type: Surface Mount; Package / Case: SOT-23-6; Supplier Device Package: SOT-23-6; ComponentLink1URL: http://www.ti.com/lit/ds/symlink/ts5a3157.pdf; ComponentLink1Description: http://www.ti.com/lit/ds/symlink/ts5a3157.pdf; Supplier Part Number 1: 296-17587-1-ND; Manufacturer Part Number: TS5A3157DBVR
footprint SOT-23-6
pins: 1 NO, 2 GND, 3 NC, 4 COM, 5 V+, 6 IN

## U.FL-R-SMT-1(10)
designator J?
CONN UMC JACK STR 50 OHM SMD; MFT: Hirose Electric Co Ltd; FUNCTION: GPS; MPN: U.FL-R-SMT-1(10); DNP: *
footprint U.FL-R-SMT-1(10)
pins: 1 SIGNAL, 2 GND

## VLMB1500-GS08
designator D?  value Blue  (hidden comment: VLMB1500-GS08)
LED BLUE 0402 SMD; MFT: Vishay Semiconductor Opto Division; FUNCTION: Top; MPN: VLMB1500-GS08; TYPE: SMD; RATING: *; DNP: *
footprint LED0402(BLUE)
pins: 1, 2

## VLMS1500-GS08
designator D?  value Red  (hidden comment: VLMS1500-GS08)
LED RED 0402 SMD; MFT: Vishay Semiconductor Opto Division; FUNCTION: Top; MPN: VLMS1500-GS08; TYPE: SMD; RATING: *; DNP: *
footprint LED0402(RED)
pins: 1, 2